# Altium footprint library PCB - LEADED - SOP - ISSI TSOP-54 400MIL TSOP-2.PcbLib: 1 footprints
Each footprint in its own frame and in the unit in brackets; x right, y up, seen from the top. Pads: shape width x height; smd on the part's side, far side on the other; paste and mask are expansions set on the pad; w line width, h text height; cw(c..) or ccw(c..) is an arc to the next point about the centre after c.
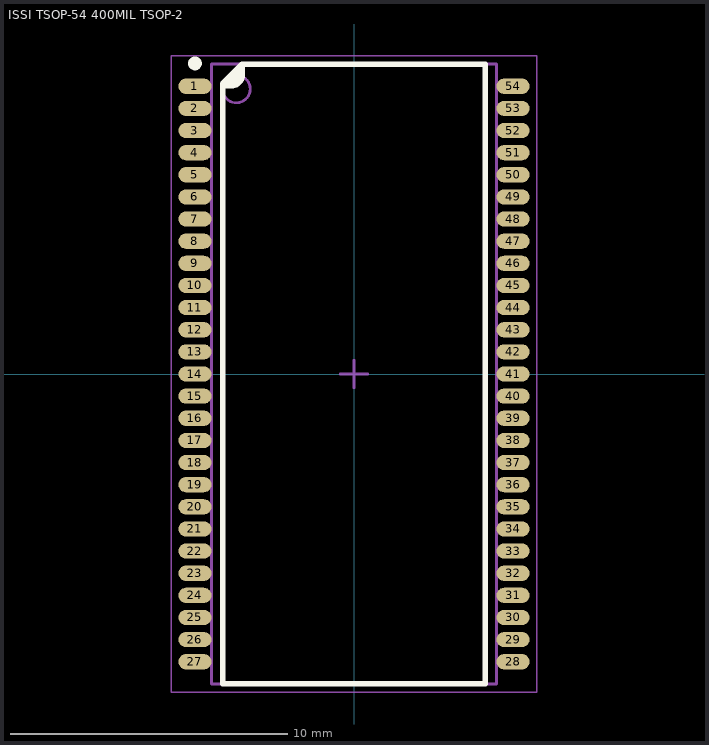
[diagram p0: the footprint, top view; thin cyan lines are the x and y axes]

## ISSI TSOP-54 400MIL TSOP-2 [mm] "TSOP, 54-Leads, Body 22.22x10.16mm, Pitch 0.80mm, IPC Medium Density"
height 1.2
pads (54):
  oval 1.2x0.55 smd: 1(-5.75,10.4) 2(-5.75,9.6) 3(-5.75,8.8) 4(-5.75,8) 5(-5.75,7.2) 6(-5.75,6.4) 7(-5.75,5.6) 8(-5.75,4.8) 9(-5.75,4) 10(-5.75,3.2) 11(-5.75,2.4) 12(-5.75,1.6) 13(-5.75,0.8) 14(-5.75,0) 15(-5.75,-0.8) 16(-5.75,-1.6) 17(-5.75,-2.4) 18(-5.75,-3.2) 19(-5.75,-4) 20(-5.75,-4.8) 21(-5.75,-5.6) 22(-5.75,-6.4) 23(-5.75,-7.2) 24(-5.75,-8) 25(-5.75,-8.8) 26(-5.75,-9.6) 27(-5.75,-10.4) 28(5.75,-10.4) 29(5.75,-9.6) 30(5.75,-8.8) 31(5.75,-8) 32(5.75,-7.2) 33(5.75,-6.4) 34(5.75,-5.6) 35(5.75,-4.8) 36(5.75,-4) 37(5.75,-3.2) 38(5.75,-2.4) 39(5.75,-1.6) 40(5.75,-0.8) 41(5.75,0) 42(5.75,0.8) 43(5.75,1.6) 44(5.75,2.4) 45(5.75,3.2) 46(5.75,4) 47(5.75,4.8) 48(5.75,5.6) 49(5.75,6.4) 50(5.75,7.2) 51(5.75,8) 52(5.75,8.8) 53(5.75,9.6) 54(5.75,10.4)
Top Overlay:
  circle w0.25: c-5.75,11.225 r0.125
  region: -4.04,11.2 -4.04,10.692 -4.318,10.414 -4.674,10.414 -4.75,10.49
  lines w0.2: -4.75,10.49 ccw(c-4.674,10.49) -4.674,10.414 -4.445,10.414 ccw(c-4.445,10.819) -4.04,10.819 -4.04,11.2 ; -4.75,10.49 -4.75,-11.2 4.75,-11.2 4.75,11.2 -4.04,11.2 ; -4.75,10.49 -4.04,11.2
Mechanical 13:
  circle w0.1: c-4.25,10.3 r0.5
  lines w0.1: -5.15,-11.2 5.15,-11.2 5.15,11.2 -5.15,11.2 -5.15,-11.2
Mechanical 15:
  lines w0.05: -6.6,-11.5 6.6,-11.5 6.6,11.5 -6.6,11.5 -6.6,-11.5
  lines w0.1: -0.5,0 0.5,0 ; 0,-0.5 0,0.5
3D body: height 1.2, standoff 0.05, extent -5.15,-11.2 5.15,11.2